# Altium schematic symbol library 2 Layers Stackup.Schlib: 1 symbol
Pins are listed as number, name and electrical type; pins without a type are passive.

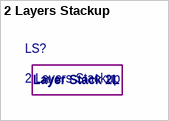
[diagram p0: symbol 2 Layers Stackup]

## 2 Layers Stackup
designator LS?  (no BOM)
text: Layer Stack 2L